# Altium schematic symbol library LVR040K-2.SchLib: 1 symbol
Pins are listed as number, name and electrical type; pins without a type are passive.

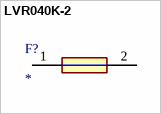
[diagram p0: symbol LVR040K-2]

## LVR040K-2
designator F?
Fuse; Manufacturer_Name: LITTELFUSE; Manufacturer_Part_Number: LVR040K-2; Description: Littelfuse 0.4A Hold current; Datasheet Link: https://www.arrow.com/en/products/lvr040k-2/littelfuse; Height: 20.9mm; Arrow Part Number: LVR040K-2; Arrow Price/Stock: https://www.arrow.com/en/products/lvr040k-2/littelfuse; Mouser Part Number: 650-LVR040K-2; Mouser Price/Stock: https://www.mouser.co.uk/ProductDetail/Littelfuse/LVR040K-2?qs=1eHGbuHHKU6uhU8tIrvVog%3D%3D
footprint LVR040K2
pins: 1, 2